# Altium footprint library Micro Power Module.PcbLib: 1 footprints
Each footprint in its own frame and in the unit in brackets; x right, y up, seen from the top. Pads: shape width x height; smd on the part's side, far side on the other; paste and mask are expansions set on the pad; w line width, h text height; cw(c..) or ccw(c..) is an arc to the next point about the centre after c.
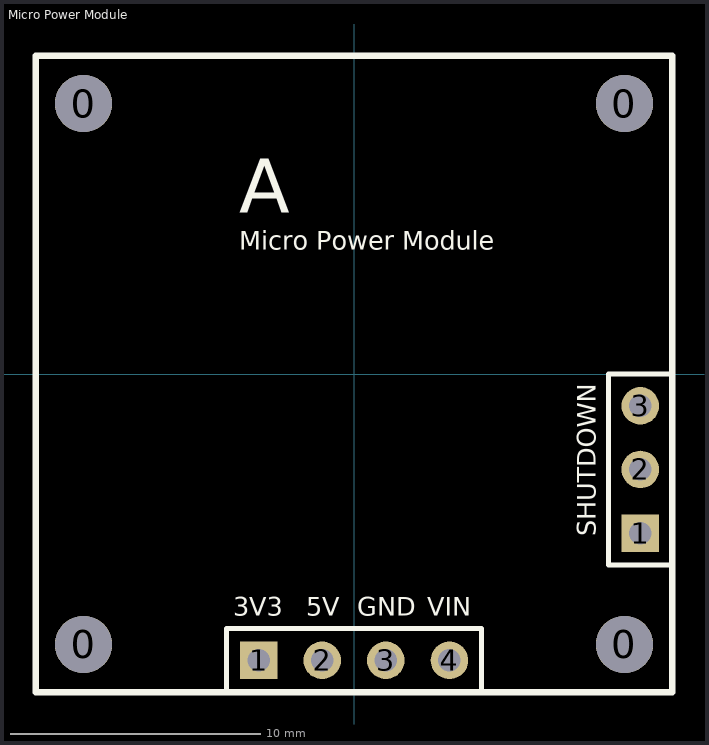
[diagram p0: the footprint, top view; thin cyan lines are the x and y axes]

## Micro Power Module [mm] "Revolution Robotics Micro Power Module"
height 12.7
pads (11):
  round 2.286 hole 2.286: 0(-10.795,-10.795) 0(-10.795,10.795) 0(10.795,-10.795) 0(10.795,10.795)
  rect 1.5x1.5 hole 0.9: 1(-3.81,-11.43) 1(11.43,-6.35)
  round 1.5 hole 0.9: 2(-1.27,-11.43) 2(11.43,-3.81) 3(1.27,-11.43) 3(11.43,-1.27) 4(3.81,-11.43)
Top Overlay:
  lines w0.2: 12.7,-7.62 10.16,-7.62 10.16,0 12.7,0 ; -5.08,-12.7 -5.08,-10.16 5.08,-10.16 5.08,-12.7 -5.08,-12.7
  lines w0.254: -12.7,-12.7 -12.7,12.7 12.7,12.7 12.7,-12.7 -12.7,-12.7
  text "A" at -4.572,5.715 h3.68
  text "VIN" at 2.921,-9.906 h1.27
  text "GND" at 0.127,-9.906 h1.27
  text "5V" at -1.905,-9.906 h1.27
  text "3V3" at -4.826,-9.906 h1.27
  text "Micro Power Module" at -4.572,4.69 h1.27
  text "SHUTDOWN" at 9.906,-6.477 h1.27